# EAGLE library part LED171596A (library gone)
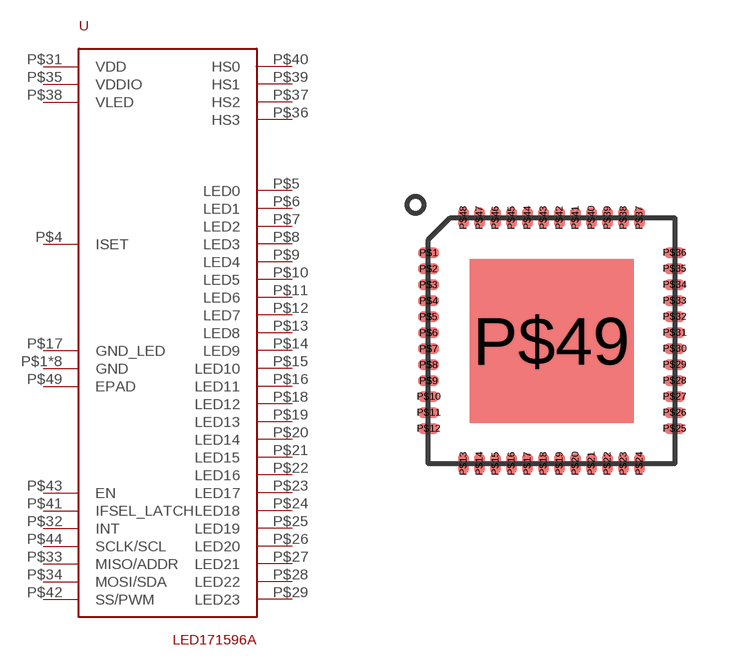
[diagram p8: symbol with the pads of S-PVQFN-N48; footprint S-PVQFN-N48]

Designator prefix -

## LED171596A  [S-PVQFN-N48]
P$1  GND
P$2  GND
P$3  GND
P$4  ISET
P$5  LED0
P$6  LED1
P$7  LED2
P$8  LED3
P$9  LED4
P$10  LED5
P$11  LED6
P$12  LED7
P$13  LED8
P$14  LED9
P$15  LED10
P$16  LED11
P$17  GND_LED
P$18  LED12
P$19  LED13
P$20  LED14
P$21  LED15
P$22  LED16
P$23  LED17
P$24  LED18
P$25  LED19
P$26  LED20
P$27  LED21
P$28  LED22
P$29  LED23
P$30  GND
P$31  VDD
P$32  INT
P$33  MISO/ADDR
P$34  MOSI/SDA
P$35  VDDIO
P$36  HS3
P$37  HS2
P$38  VLED
P$39  HS1
P$40  HS0
P$41  IFSEL_LATCH
P$42  SS/PWM
P$43  EN
P$44  SCLK/SCL
P$45  GND
P$46  GND
P$47  GND
P$48  GND
P$49  EPAD

## Footprint S-PVQFN-N48 (pad centres in mm)
smd 0.52 x 0.26: P$1 -3.075,2.2; P$2 -3.075,1.8; P$3 -3.075,1.4; P$4 -3.075,1; P$5 -3.075,0.6; P$6 -3.075,0.2; P$7 -3.075,-0.2; P$8 -3.075,-0.6; P$9 -3.075,-1; P$10 -3.075,-1.4; P$11 -3.075,-1.8; P$12 -3.075,-2.2; P$25 3.075,-2.2; P$26 3.075,-1.8; P$27 3.075,-1.4; P$28 3.075,-1; P$29 3.075,-0.6; P$30 3.075,-0.2; P$31 3.075,0.2; P$32 3.075,0.6; P$33 3.075,1; P$34 3.075,1.4; P$35 3.075,1.8; P$36 3.075,2.2
smd 0.26 x 0.52: P$13 -2.2,-3.075; P$14 -1.8,-3.075; P$15 -1.4,-3.075; P$16 -1,-3.075; P$17 -0.6,-3.075; P$18 -0.2,-3.075; P$19 0.2,-3.075; P$20 0.6,-3.075; P$21 1,-3.075; P$22 1.4,-3.075; P$23 1.8,-3.075; P$24 2.2,-3.075; P$37 2.2,3.075; P$38 1.8,3.075; P$39 1.4,3.075; P$40 1,3.075; P$41 0.6,3.075; P$42 0.2,3.075; P$43 -0.2,3.075; P$44 -0.6,3.075; P$45 -1,3.075; P$46 -1.4,3.075; P$47 -1.8,3.075; P$48 -2.2,3.075
smd 4.1 x 4.1: P$49 0,0